# Altium footprint library PROTECT_TVS_ESD_FUSE.PcbLib: 31 footprints (part 2 of 2)
Each footprint in its own frame and in the unit in brackets; x right, y up, seen from the top. Pads: shape width x height; smd on the part's side, far side on the other; paste and mask are expansions set on the pad; w line width, h text height; cw(c..) or ccw(c..) is an arc to the next point about the centre after c.
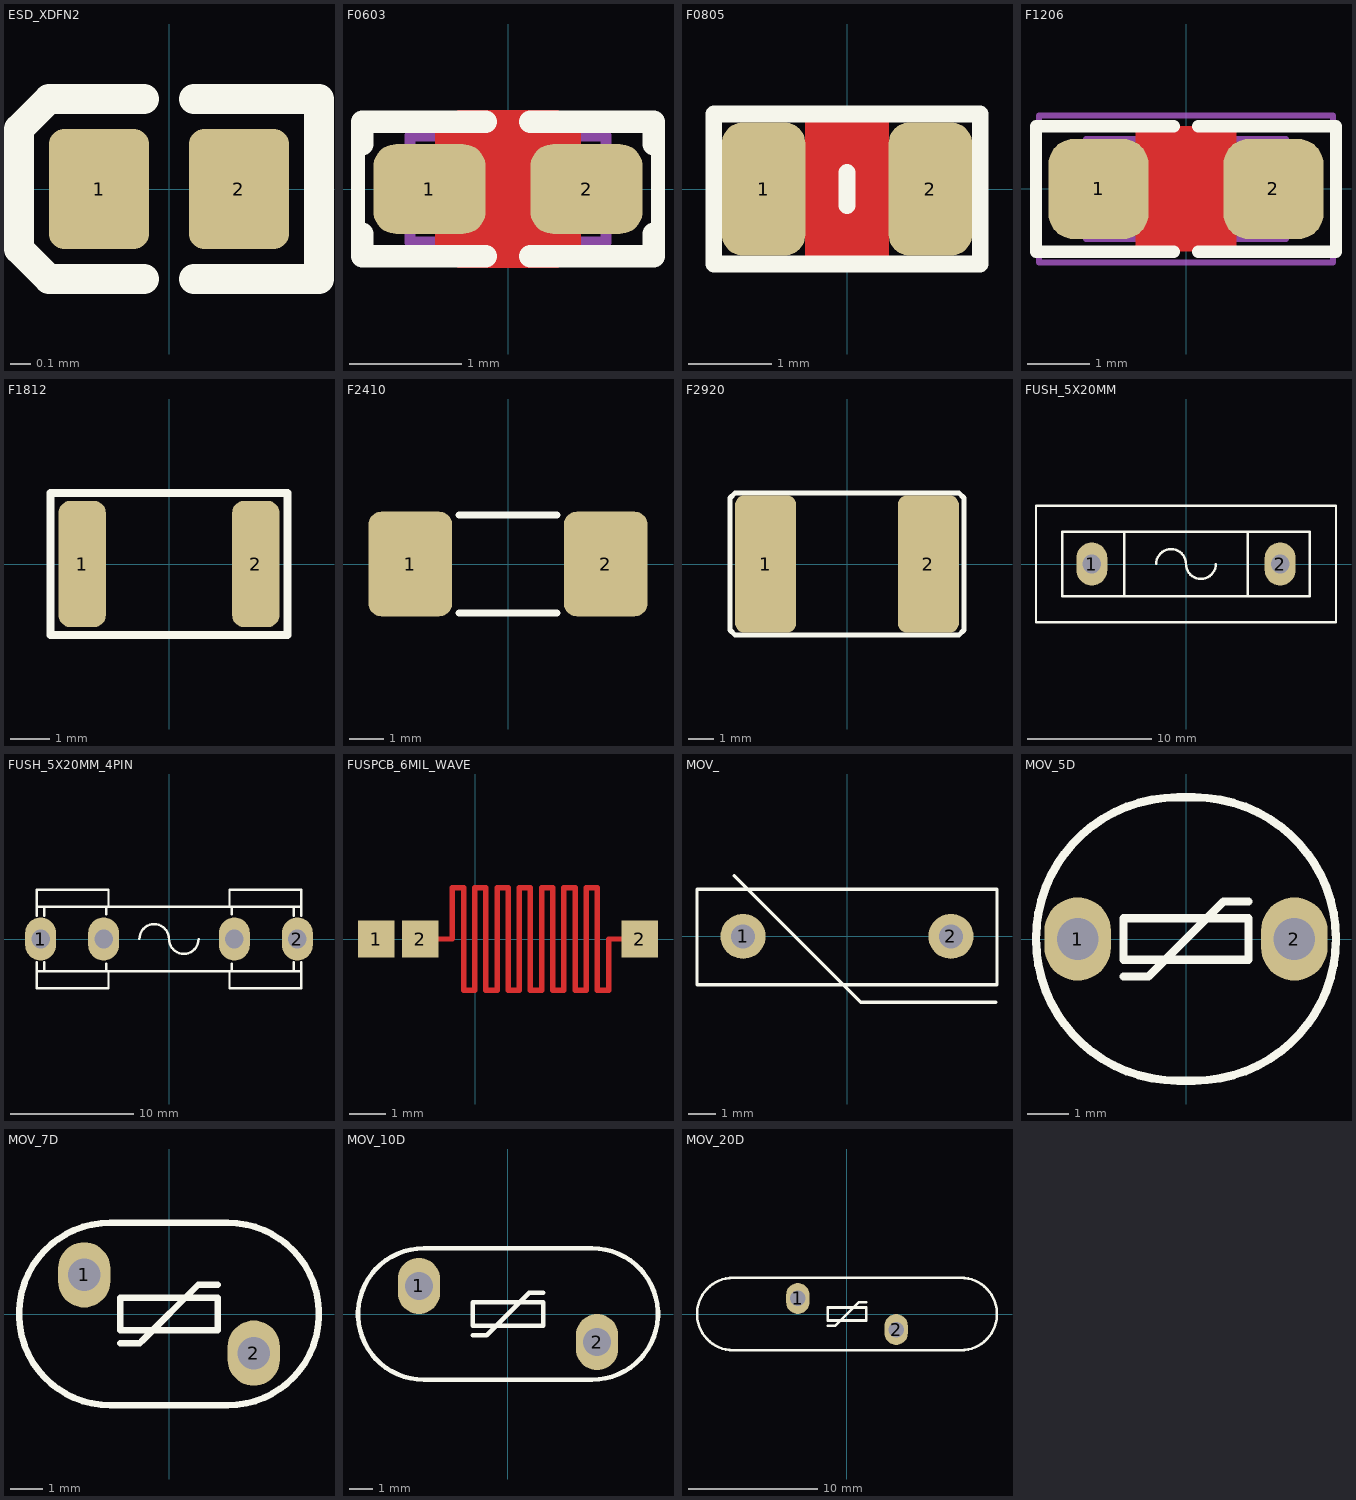
[diagram p1: the footprints below, top view; thin cyan lines are the x and y axes]

## ESD_XDFN2 [mm] "CHIP ESD Suppressor XDFN-2 X2DFN-2, 1X0.6mm"
height 0.8
pads (2):
  rrect30% 0.5x0.6 smd mask+0.075: 1(-0.35,0) 2(0.35,0)
Top Overlay:
  lines w0.15: -0.125,-0.45 -0.6,-0.45 -0.75,-0.3 -0.75,0.3 -0.6,0.45 -0.125,0.45 ; 0.125,-0.45 0.75,-0.45 0.75,0.45 0.125,0.45
3D body: height 0.05, standoff 0, extent 0.175,-0.25 0.475,0.25
3D body: height 0.05, standoff 0, extent -0.475,-0.25 -0.175,0.25
3D body: height 0.45, standoff 0.01, extent -0.5,-0.3 0.5,0.3

## F0603 [mm] "FUSE FAST 500mA, 1.6x0.8mm, 0603"
height 0.8
pads (2):
  rrect50% 1x0.8 smd mask+0.075: 1(-0.7,0) 2(0.7,0)
Top Layer:
  pour cut-out: -0.65,0.5 -0.45,0.7 0.45,0.7 0.65,0.5 0.65,-0.5 0.45,-0.7 -0.45,-0.7 -0.65,-0.5
Top Overlay:
  lines w0.125: -1.337,-0.4 -1.337,0.4 ; 1.337,-0.4 1.337,0.4
  lines w0.2: -1.3,-0.4 -1.3,-0.6 -0.2,-0.6 ; -1.3,0.4 -1.3,0.6 -0.2,0.6 ; 0.2,-0.6 1.3,-0.6 1.3,-0.4 ; 0.2,0.6 1.3,0.6 1.3,0.4
13 - 3D Top Side:
  lines w0.1: -0.875,-0.475 -0.875,0.475 0.875,0.475 0.875,-0.475 -0.875,-0.475
3D body "MF-FSMF050X-2.stp": height 0.82, standoff 0, extent -0.825,-0.425 0.825,0.425

## F0805 [mm] "FUSE FAST 500mA, 0805, 2012, 2.0X1.3mm"
pads (2):
  rrect50% 1x1.6 smd mask+0.075: 1(-1,0) 2(1,0)
Top Layer:
  pour cut-out: -0.5,0.8 0.5,0.8 0.5,-0.8 -0.5,-0.8
Top Overlay:
  lines w0.2: 0,-0.2 0,0.2 ; -1.6,-0.9 -1.6,0.9 1.6,0.9 1.6,-0.9 -1.6,-0.9
3D body "User Library-fuse0805L050WR.step": height 1.24, standoff 0, extent -1.105,-0.749 1.105,0.749

## F1206 [mm] "FUSE, 1206, 3.2x1.6mm"
height 2.5
pads (2):
  rrect50% 1.6x1.6 smd mask+0.075: 1(-1.4,0) 2(1.4,0)
Top Layer:
  pour cut-out: -0.8,1 -0.8,-1 0.8,-1 0.8,1
Top Overlay:
  lines w0.2: -2.4,-1 -0.2,-1 ; -2.4,-1 -2.4,1 -0.2,1 ; 0.2,-1 2.4,-1 ; 0.2,1 2.4,1 2.4,-1
13 - 3D Top Side:
  lines w0.1: -1.6,-0.8 1.6,-0.8 1.6,0.8 -1.6,0.8 -1.6,-0.8
15 - Top Courtyards:
  lines w0.1: -0.5,0 0.5,0 ; 0,-0.5 0,0.5 ; -2.35,-1.175 2.35,-1.175 2.35,1.175 -2.35,1.175 -2.35,-1.175
3D body "User Library-FUSER_nanoSMD.step": height 1, standoff 0, extent -1.603,-0.8 1.602,0.8

## F1812 [mm] "FUSE, 4.50x3.20mm"
height 2.5
pads (2):
  rrect50% 1.2x3.2 smd mask+0.1: 1(-2.2,0) 2(2.2,0)
Top Overlay:
  lines w0.2: -3,-1.8 -3,1.8 3,1.8 3,-1.8 -3,-1.8
3D body "User Library-fuse1812.step": height 1.32, standoff 0, extent -2.41,-1.61 2.41,1.61

## F2410 [mm] "FUSE, 6x2.5mm"
height 2.2
pads (2):
  rrect30% 2.4x3 smd mask+0.1: 1(-2.8,0) 2(2.8,0)
Top Overlay:
  lines w0.2: -1.4,-1.4 1.4,-1.4 ; -1.4,1.4 1.4,1.4
3D body "User Library-2410 fuse.step": height 2.18, standoff 0.02, extent -3.09,-1.25 3.09,1.25

## F2920 [mm] "FUSE, 7.7x5.3mm"
height 2.5
pads (2):
  rrect30% 2.4x5.4 smd mask+0.1: 1(-3.2,0) 2(3.2,0)
Top Overlay:
  lines w0.2: -4.6,-2.6 -4.6,2.6 -4.4,2.8 4.4,2.8 4.6,2.6 4.6,-2.6 4.4,-2.8 -4.4,-2.8 -4.6,-2.6
3D body "User Library-FUSE-2920.step": height 1.05, standoff 0.05, extent -3.85,-2.65 3.85,2.65

## FUSH_5X20MM [mm] "PCB Fuse Holder 5x20mm 2 PIN, pitch: 15.0mm  24x9mm"
height 10
pads (2):
  oval 2.5x3.5 hole 1.5: 1(-7.6,0) 2(7.6,0)
Top Overlay:
  lines w0.2: -5,-2.6 -5,2.6 ; -2.4,0 cw(c-1.2,0) 0,0 ccw(c1.2,0) 2.4,0 ; 5,-2.6 5,2.6 ; -12.1,-4.7 12.1,-4.7 12.1,4.7 -12.1,4.7 -12.1,-4.7 ; -10,-2.6 10,-2.6 10,2.6 -10,2.6 -10,-2.6
3D body "User Library-FUSIVEL.STEP": height 11.5, standoff 6.5, extent -9.975,-2.475 10.025,2.525
3D body "FUSE-HOLDER.step": height 13.46, standoff -2.4, extent -12,-4.541 12,4.541

## FUSH_5X20MM_4PIN [mm] "PCB Fuse Holder 5x20mm 4 PIN"
height 6
pads (4):
  oval 2.5x3.5 hole 1.5: 1(-10.4,0) 2(10.4,0) ""(-5.3,0) ""(5.3,0)
Top Overlay:
  lines w0.2: -10.7,-2.6 10.7,-2.6 ; -10.7,-1.9 -10.7,-4 -4.9,-4 -4.9,-2.622 ; -10.7,1.9 -10.7,4 -4.9,4 -4.9,2.622 ; -10.7,2.6 10.7,2.6 ; -10.1,-2.6 -10.1,-1.9 ; -10.1,1.9 -10.1,2.6 ; -5.1,-2.6 -5.1,-2 ; -5.1,2 -5.1,2.6 ; -2.4,0 cw(c-1.2,0) 0,0 ccw(c1.2,0) 2.4,0 ; 4.9,-2.622 4.9,-4 10.7,-4 10.7,-1.9 ; 4.9,2.622 4.9,4 10.7,4 10.7,1.9 ; 5.1,-2.6 5.1,-2 ; 5.1,2 5.1,2.6 ; 10.1,-2.6 10.1,-1.9 ; 10.1,1.9 10.1,2.6
3D body "User Library-FH-100.step": height 9.99, standoff -3.5, extent -10.8,-3.5 -5.2,3.5
3D body "User Library-FH-100.step": height 9.99, standoff -3.5, extent 5.2,-3.5 10.8,3.5
3D body "User Library-Fusivel-1.step": height 8.6, standoff 3.4, extent -10,-2.5 10,2.7

## FUSPCB_6MIL_WAVE [mm] "PCB Fuse, 6 mils wide, fuse time depends on substrate and current"
pads (3):
  rrect1% 1x1 smd paste-2: 1(-2.7,0) 2(-1.5,0) 2(4.5,0)
Top Layer:
  lines w0.15: -1,0 -0.619,0 -0.619,1.4 -0.314,1.4 -0.314,-1.4 -0.01,-1.4 -0.01,1.4 0.295,1.4 0.295,-1.4 0.6,-1.4 0.6,1.4 0.905,1.4 0.905,-1.4 1.21,-1.4 1.21,1.4 1.514,1.4 1.514,-1.4 1.819,-1.4 1.819,1.4 2.124,1.4 2.124,-1.4 2.429,-1.4 2.429,1.4 2.734,1.4 2.734,-1.4 3.038,-1.4 3.038,1.4 3.343,1.4 3.343,-1.4 3.648,-1.4 3.648,0 4,0
3D body: height 0.05, standoff 0, extent -3.2,-0.5 5,0.5

## MOV_ [mil] "VDR, VARISTOR,"
pads (2):
  round 65 hole 35: 1(-150,0) 2(150,0)
Top Overlay:
  lines w5: -162.5,87.5 20,-95 215,-95 ; -216.47,-69.99 -216.47,68.36 216.43,68.36 216.43,-69.99 -216.47,-69.99
3D body "JVR10N331k_vertical.STEP": height 472.44, standoff -98.43, extent -216.47,-69.99 216.47,68.36

## MOV_5D [mm] "VDR, VARISTOR, 7X6.5, pitch: 5.0mm"
pads (2):
  oval 1.6x2 hole 1: 1(-2.6,0) 2(2.6,0)
Top Overlay:
  lines w0.2: -1.5,-0.9 -0.9,-0.9 -0.8,-0.8 0.9,0.9 1.5,0.9 ; -1.5,-0.5 1.5,-0.5 1.5,0.5 -1.5,0.5 -1.5,-0.5 ; -0.2,-3.4 cw(c-0.2,0) -0.2,3.4 0.2,3.4 cw(c0.2,0) 0.2,-3.4 -0.2,-3.4
3D body "MOV5D_vdrs05bke.SLDPRT": height 11, standoff -3, extent -3.498,-3.25 3.498,3.25

## MOV_7D [mm] "VDR, VARISTOR, 9X5.6, pitch: 5.0mm, 275VAC(RMS)"
pads (2):
  oval 1.6x2 hole 1: 1(-2.6,1.2) 2(2.6,-1.2)
Top Overlay:
  lines w0.2: -1.5,-0.9 -0.9,-0.9 -0.8,-0.8 0.9,0.9 1.5,0.9 ; -1.8,-2.8 cw(c-1.8,0) -1.8,2.8 1.8,2.8 cw(c1.8,0) 1.8,-2.8 -1.8,-2.8 ; -1.5,-0.5 1.5,-0.5 1.5,0.5 -1.5,0.5 -1.5,-0.5
3D body "MOV7D-Varistor 7mm.SLDPRT": height 12.5, standoff -2.5, extent -4.494,-2.8 4.494,2.8

## MOV_10D [mm] "VDR, VARISTOR, 12.5X5.6, pitch: 7.6mm, 420VAC(RMS)"
pads (2):
  oval 1.8x2.4 hole 1.2: 1(-3.8,1.2) 2(3.8,-1.2)
Top Overlay:
  lines w0.2: -1.5,-0.9 -0.9,-0.9 -0.8,-0.8 0.9,0.9 1.5,0.9 ; -3.6,-2.8 cw(c-3.6,0) -3.6,2.8 3.6,2.8 cw(c3.6,0) 3.6,-2.8 -3.6,-2.8 ; -1.5,-0.5 1.5,-0.5 1.5,0.5 -1.5,0.5 -1.5,-0.5
3D body "MOV10D-Varistor 10mm.SLDPRT": height 16.25, standoff -2.75, extent -6.245,-2.8 6.245,2.8

## MOV_20D [mm] "VDR, VARISTOR, 23X5.6mm, pitch: 7.6mm, MOV-07DxxxK Metal Oxide Varistor (MOVs)"
pads (2):
  oval 1.8x2.4 hole 1.2: 1(-3.8,1.2) 2(3.8,-1.2)
Top Overlay:
  lines w0.2: -1.5,-0.9 -0.9,-0.9 -0.8,-0.8 0.9,0.9 1.5,0.9 ; -8.8,-2.8 cw(c-8.8,0) -8.8,2.8 8.8,2.8 cw(c8.8,0) 8.8,-2.8 -8.8,-2.8 ; -1.5,-0.5 1.5,-0.5 1.5,0.5 -1.5,0.5 -1.5,-0.5
3D body "MOV20D-Varistor 20mm.SLDPRT": height 26.5, standoff -3, extent -11.492,-2.8 11.492,2.8